# Altium footprint library CONN_HDR_2.54MM_ST_SMDE.PcbLib: 38 footprints (part 3 of 3)
Each footprint in its own frame and in the unit in brackets; x right, y up, seen from the top. Pads: shape width x height; smd on the part's side, far side on the other; paste and mask are expansions set on the pad; w line width, h text height; cw(c..) or ccw(c..) is an arc to the next point about the centre after c.
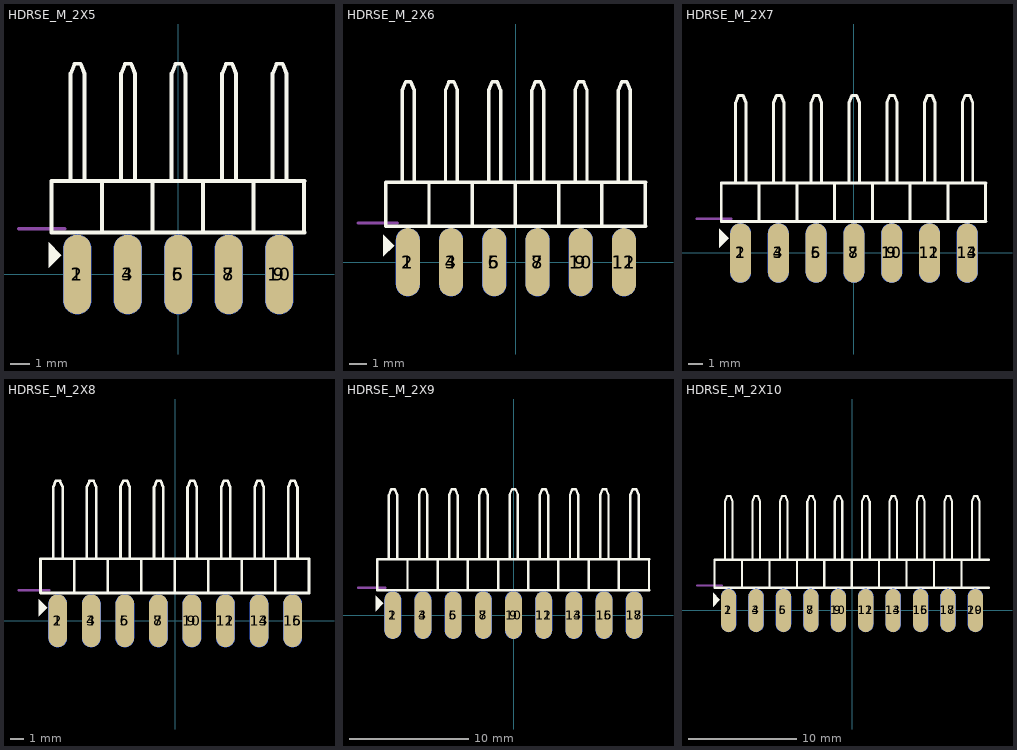
[diagram p2: the footprints below, top view; thin cyan lines are the x and y axes]

## HDRSE_M_2X5 [mm] "Male Header 2X05 with 2.54 mm Pitch"
pads (10):
  oval 1.4x4 smd: 1(-5.08,0) 3(-2.54,0) 5(0,0) 7(2.54,0) 9(5.08,0)
  oval 1.4x4 smd far side: 2(-5.08,0) 4(-2.54,0) 6(0,0) 8(2.54,0) 10(5.08,0)
TopOverlay:
  region: -6.523,0.342 -5.887,0.979 -6.523,1.615
  lines w0.2: -5.41,4.7 -5.41,10.1 -5.21,10.6 -4.91,10.6 -4.71,10.1 ; -4.71,4.7 -4.71,10.1 ; -3.81,2.1 -6.38,2.1 -6.38,4.7 -3.81,4.7 ; -2.87,4.7 -2.87,10.1 -2.67,10.6 -2.37,10.6 -2.17,10.1 ; -2.17,4.7 -2.17,10.1 ; -1.27,2.1 -3.84,2.1 -3.84,4.7 -1.27,4.7 ; -0.33,4.7 -0.33,10.1 -0.13,10.6 0.17,10.6 0.37,10.1 ; 0.37,4.7 0.37,10.1 ; 1.27,2.1 -1.3,2.1 -1.3,4.7 1.27,4.7 ; 2.21,4.7 2.21,10.1 2.41,10.6 2.71,10.6 2.91,10.1 ; 2.91,4.7 2.91,10.1 ; 3.81,2.1 1.24,2.1 1.24,4.7 3.81,4.7 ; 4.75,4.7 4.75,10.1 4.95,10.6 5.25,10.6 5.45,10.1 ; 5.45,4.7 5.45,10.1 ; 6.32,2.1 6.32,4.7 ; 6.35,2.1 3.78,2.1 3.78,4.7 6.35,4.7 ; -4.71,10.1 -4.71,10.1 ; -2.17,10.1 -2.17,10.1 ; 0.37,10.1 0.37,10.1 ; 2.91,10.1 2.91,10.1 ; 5.45,10.1 5.45,10.1
Mechanical1:
  lines w0.2: -8.01,2.3 -5.71,2.3
  text "Edge of PCB" at -8.11,2.5 h0.4
3D body "header2x5.step": height 2.54, standoff -2.54, extent -6.35,-0.39 6.349,10.532

## HDRSE_M_2X6 [mm] "Male Header 2X06 with 2.54 mm Pitch"
pads (12):
  oval 1.4x4 smd: 1(-6.35,0) 3(-3.81,0) 5(-1.27,0) 7(1.27,0) 9(3.81,0) 11(6.35,0)
  oval 1.4x4 smd far side: 2(-6.35,0) 4(-3.81,0) 6(-1.27,0) 8(1.27,0) 10(3.81,0) 12(6.35,0)
TopOverlay:
  region: -7.793,0.342 -7.157,0.979 -7.793,1.615
  lines w0.2: -6.68,4.7 -6.68,10.1 -6.48,10.6 -6.18,10.6 -5.98,10.1 ; -5.98,4.7 -5.98,10.1 ; -5.08,2.1 -7.65,2.1 -7.65,4.7 -5.08,4.7 ; -4.14,4.7 -4.14,10.1 -3.94,10.6 -3.64,10.6 -3.44,10.1 ; -3.44,4.7 -3.44,10.1 ; -2.54,2.1 -5.11,2.1 -5.11,4.7 -2.54,4.7 ; -1.6,4.7 -1.6,10.1 -1.4,10.6 -1.1,10.6 -0.9,10.1 ; -0.9,4.7 -0.9,10.1 ; 0,2.1 -2.57,2.1 -2.57,4.7 0,4.7 ; 0.94,4.7 0.94,10.1 1.14,10.6 1.44,10.6 1.64,10.1 ; 1.64,4.7 1.64,10.1 ; 2.54,2.1 -0.03,2.1 -0.03,4.7 2.54,4.7 ; 3.48,4.7 3.48,10.1 3.68,10.6 3.98,10.6 4.18,10.1 ; 4.18,4.7 4.18,10.1 ; 5.08,2.1 2.51,2.1 2.51,4.7 5.08,4.7 ; 6.02,4.7 6.02,10.1 6.22,10.6 6.52,10.6 6.72,10.1 ; 6.72,4.7 6.72,10.1 ; 7.59,2.1 7.59,4.7 ; 7.62,2.1 5.05,2.1 5.05,4.7 7.62,4.7 ; -5.98,10.1 -5.98,10.1 ; -3.44,10.1 -3.44,10.1 ; -0.9,10.1 -0.9,10.1 ; 1.64,10.1 1.64,10.1 ; 4.18,10.1 4.18,10.1 ; 6.72,10.1 6.72,10.1
Mechanical1:
  lines w0.2: -9.28,2.3 -6.98,2.3
  text "Edge of PCB" at -9.38,2.5 h0.4
3D body "header2x6.step": height 2.54, standoff -2.54, extent -7.62,-0.39 7.619,10.532

## HDRSE_M_2X7 [mm] "Male Header 2X07 with 2.54 mm Pitch"
pads (14):
  oval 1.4x4 smd mask+0.1: 1(-7.62,0) 3(-5.08,0) 5(-2.54,0) 7(0,0) 9(2.54,0) 11(5.08,0) 13(7.62,0)
  oval 1.4x4 smd far side mask+0.1: 2(-7.62,0) 4(-5.08,0) 6(-2.54,0) 8(0,0) 10(2.54,0) 12(5.08,0) 14(7.62,0)
TopOverlay:
  region: -9.063,0.342 -8.427,0.979 -9.063,1.615
  lines w0.2: -7.95,4.7 -7.95,10.1 -7.75,10.6 -7.45,10.6 -7.25,10.1 ; -7.25,4.7 -7.25,10.1 ; -6.35,2.1 -8.92,2.1 -8.92,4.7 -6.35,4.7 ; -5.41,4.7 -5.41,10.1 -5.21,10.6 -4.91,10.6 -4.71,10.1 ; -4.71,4.7 -4.71,10.1 ; -3.81,2.1 -6.38,2.1 -6.38,4.7 -3.81,4.7 ; -2.87,4.7 -2.87,10.1 -2.67,10.6 -2.37,10.6 -2.17,10.1 ; -2.17,4.7 -2.17,10.1 ; -1.27,2.1 -3.84,2.1 -3.84,4.7 -1.27,4.7 ; -0.33,4.7 -0.33,10.1 -0.13,10.6 0.17,10.6 0.37,10.1 ; 0.37,4.7 0.37,10.1 ; 1.27,2.1 -1.3,2.1 -1.3,4.7 1.27,4.7 ; 2.21,4.7 2.21,10.1 2.41,10.6 2.71,10.6 2.91,10.1 ; 2.91,4.7 2.91,10.1 ; 3.81,2.1 1.24,2.1 1.24,4.7 3.81,4.7 ; 4.75,4.7 4.75,10.1 4.95,10.6 5.25,10.6 5.45,10.1 ; 5.45,4.7 5.45,10.1 ; 6.35,2.1 3.78,2.1 3.78,4.7 6.35,4.7 ; 7.29,4.7 7.29,10.1 7.49,10.6 7.79,10.6 7.99,10.1 ; 7.99,4.7 7.99,10.1 ; 8.86,2.1 8.86,4.7 ; 8.89,2.1 6.32,2.1 6.32,4.7 8.89,4.7 ; -7.25,10.1 -7.25,10.1 ; -4.71,10.1 -4.71,10.1 ; -2.17,10.1 -2.17,10.1 ; 0.37,10.1 0.37,10.1 ; 2.91,10.1 2.91,10.1 ; 5.45,10.1 5.45,10.1 ; 7.99,10.1 7.99,10.1
Mechanical1:
  lines w0.2: -10.55,2.3 -8.25,2.3
  text "Edge of PCB" at -10.65,2.5 h0.4
3D body "header2x7.step": height 2.46, standoff -2.57, extent -8.89,-1 8.89,10.54

## HDRSE_M_2X8 [mm] "Male Header 2X08 with 2.54 mm Pitch"
pads (16):
  oval 1.4x4 smd: 1(-8.89,0) 3(-6.35,0) 5(-3.81,0) 7(-1.27,0) 9(1.27,0) 11(3.81,0) 13(6.35,0) 15(8.89,0)
  oval 1.4x4 smd far side: 2(-8.89,0) 4(-6.35,0) 6(-3.81,0) 8(-1.27,0) 10(1.27,0) 12(3.81,0) 14(6.35,0) 16(8.89,0)
TopOverlay:
  region: -10.333,0.342 -9.697,0.979 -10.333,1.615
  lines w0.2: -9.22,4.7 -9.22,10.1 -9.02,10.6 -8.72,10.6 -8.52,10.1 ; -8.52,4.7 -8.52,10.1 ; -7.62,2.1 -10.19,2.1 -10.19,4.7 -7.62,4.7 ; -6.68,4.7 -6.68,10.1 -6.48,10.6 -6.18,10.6 -5.98,10.1 ; -5.98,4.7 -5.98,10.1 ; -5.08,2.1 -7.65,2.1 -7.65,4.7 -5.08,4.7 ; -4.14,4.7 -4.14,10.1 -3.94,10.6 -3.64,10.6 -3.44,10.1 ; -3.44,4.7 -3.44,10.1 ; -2.54,2.1 -5.11,2.1 -5.11,4.7 -2.54,4.7 ; -1.6,4.7 -1.6,10.1 -1.4,10.6 -1.1,10.6 -0.9,10.1 ; -0.9,4.7 -0.9,10.1 ; 0,2.1 -2.57,2.1 -2.57,4.7 0,4.7 ; 0.94,4.7 0.94,10.1 1.14,10.6 1.44,10.6 1.64,10.1 ; 1.64,4.7 1.64,10.1 ; 2.54,2.1 -0.03,2.1 -0.03,4.7 2.54,4.7 ; 3.48,4.7 3.48,10.1 3.68,10.6 3.98,10.6 4.18,10.1 ; 4.18,4.7 4.18,10.1 ; 5.08,2.1 2.51,2.1 2.51,4.7 5.08,4.7 ; 6.02,4.7 6.02,10.1 6.22,10.6 6.52,10.6 6.72,10.1 ; 6.72,4.7 6.72,10.1 ; 7.62,2.1 5.05,2.1 5.05,4.7 7.62,4.7 ; 8.56,4.7 8.56,10.1 8.76,10.6 9.06,10.6 9.26,10.1 ; 9.26,4.7 9.26,10.1 ; 10.13,2.1 10.13,4.7 ; 10.16,2.1 7.59,2.1 7.59,4.7 10.16,4.7 ; -8.52,10.1 -8.52,10.1 ; -5.98,10.1 -5.98,10.1 ; -3.44,10.1 -3.44,10.1 ; -0.9,10.1 -0.9,10.1 ; 1.64,10.1 1.64,10.1 ; 4.18,10.1 4.18,10.1 ; 6.72,10.1 6.72,10.1 ; 9.26,10.1 9.26,10.1
Mechanical1:
  lines w0.2: -11.82,2.3 -9.52,2.3
  text "Edge of PCB" at -11.92,2.5 h0.4
3D body "header2x8.step": height 2.54, standoff -2.54, extent -10.16,-0.39 10.159,10.532

## HDRSE_M_2X9 [mm] "Male Header 2X09 with 2.54 mm Pitch"
pads (18):
  oval 1.4x4 smd: 1(-10.16,0) 3(-7.62,0) 5(-5.08,0) 7(-2.54,0) 9(0,0) 11(2.54,0) 13(5.08,0) 15(7.62,0) 17(10.16,0)
  oval 1.4x4 smd far side: 2(-10.16,0) 4(-7.62,0) 6(-5.08,0) 8(-2.54,0) 10(0,0) 12(2.54,0) 14(5.08,0) 16(7.62,0) 18(10.16,0)
TopOverlay:
  region: -11.603,0.342 -10.967,0.979 -11.603,1.615
  lines w0.2: -10.49,4.7 -10.49,10.1 -10.29,10.6 -9.99,10.6 -9.79,10.1 ; -9.79,4.7 -9.79,10.1 ; -8.89,2.1 -11.46,2.1 -11.46,4.7 -8.89,4.7 ; -7.95,4.7 -7.95,10.1 -7.75,10.6 -7.45,10.6 -7.25,10.1 ; -7.25,4.7 -7.25,10.1 ; -6.35,2.1 -8.92,2.1 -8.92,4.7 -6.35,4.7 ; -5.41,4.7 -5.41,10.1 -5.21,10.6 -4.91,10.6 -4.71,10.1 ; -4.71,4.7 -4.71,10.1 ; -3.81,2.1 -6.38,2.1 -6.38,4.7 -3.81,4.7 ; -2.87,4.7 -2.87,10.1 -2.67,10.6 -2.37,10.6 -2.17,10.1 ; -2.17,4.7 -2.17,10.1 ; -1.27,2.1 -3.84,2.1 -3.84,4.7 -1.27,4.7 ; -0.33,4.7 -0.33,10.1 -0.13,10.6 0.17,10.6 0.37,10.1 ; 0.37,4.7 0.37,10.1 ; 1.27,2.1 -1.3,2.1 -1.3,4.7 1.27,4.7 ; 2.21,4.7 2.21,10.1 2.41,10.6 2.71,10.6 2.91,10.1 ; 2.91,4.7 2.91,10.1 ; 3.81,2.1 1.24,2.1 1.24,4.7 3.81,4.7 ; 4.75,4.7 4.75,10.1 4.95,10.6 5.25,10.6 5.45,10.1 ; 5.45,4.7 5.45,10.1 ; 6.35,2.1 3.78,2.1 3.78,4.7 6.35,4.7 ; 7.29,4.7 7.29,10.1 7.49,10.6 7.79,10.6 7.99,10.1 ; 7.99,4.7 7.99,10.1 ; 8.89,2.1 6.32,2.1 6.32,4.7 8.89,4.7 ; 9.83,4.7 9.83,10.1 10.03,10.6 10.33,10.6 10.53,10.1 ; 10.53,4.7 10.53,10.1 ; 11.4,2.1 11.4,4.7 ; 11.43,2.1 8.86,2.1 8.86,4.7 11.43,4.7 ; -9.79,10.1 -9.79,10.1 ; -7.25,10.1 -7.25,10.1 ; -4.71,10.1 -4.71,10.1 ; -2.17,10.1 -2.17,10.1 ; 0.37,10.1 0.37,10.1 ; 2.91,10.1 2.91,10.1 ; 5.45,10.1 5.45,10.1 ; 7.99,10.1 7.99,10.1 ; 10.53,10.1 10.53,10.1
Mechanical1:
  lines w0.2: -13.09,2.3 -10.79,2.3
  text "Edge of PCB" at -13.19,2.5 h0.4
3D body "header2x9.step": height 2.54, standoff -2.54, extent -11.43,-0.46 11.429,10.462

## HDRSE_M_2X10 [mm] "Male Header 2X10 with 2.54 mm Pitch"
pads (20):
  oval 1.4x4 smd: 1(-11.43,0) 3(-8.89,0) 5(-6.35,0) 7(-3.81,0) 9(-1.27,0) 11(1.27,0) 13(3.81,0) 15(6.35,0) 17(8.89,0) 19(11.43,0)
  oval 1.4x4 smd far side: 2(-11.43,0) 4(-8.89,0) 6(-6.35,0) 8(-3.81,0) 10(-1.27,0) 12(1.27,0) 14(3.81,0) 16(6.35,0) 18(8.89,0) 20(11.43,0)
TopOverlay:
  region: -12.873,0.342 -12.237,0.979 -12.873,1.615
  lines w0.2: -11.76,4.7 -11.76,10.1 -11.56,10.6 -11.26,10.6 -11.06,10.1 ; -11.06,4.7 -11.06,10.1 ; -10.16,2.1 -12.73,2.1 -12.73,4.7 -10.16,4.7 ; -9.22,4.7 -9.22,10.1 -9.02,10.6 -8.72,10.6 -8.52,10.1 ; -8.52,4.7 -8.52,10.1 ; -7.62,2.1 -10.19,2.1 -10.19,4.7 -7.62,4.7 ; -6.68,4.7 -6.68,10.1 -6.48,10.6 -6.18,10.6 -5.98,10.1 ; -5.98,4.7 -5.98,10.1 ; -5.08,2.1 -7.65,2.1 -7.65,4.7 -5.08,4.7 ; -4.14,4.7 -4.14,10.1 -3.94,10.6 -3.64,10.6 -3.44,10.1 ; -3.44,4.7 -3.44,10.1 ; -2.54,2.1 -5.11,2.1 -5.11,4.7 -2.54,4.7 ; -1.6,4.7 -1.6,10.1 -1.4,10.6 -1.1,10.6 -0.9,10.1 ; -0.9,4.7 -0.9,10.1 ; 0,2.1 -2.57,2.1 -2.57,4.7 0,4.7 ; 0.94,4.7 0.94,10.1 1.14,10.6 1.44,10.6 1.64,10.1 ; 1.64,4.7 1.64,10.1 ; 2.54,2.1 -0.03,2.1 -0.03,4.7 2.54,4.7 ; 3.48,4.7 3.48,10.1 3.68,10.6 3.98,10.6 4.18,10.1 ; 4.18,4.7 4.18,10.1 ; 5.08,2.1 2.51,2.1 2.51,4.7 5.08,4.7 ; 6.02,4.7 6.02,10.1 6.22,10.6 6.52,10.6 6.72,10.1 ; 6.72,4.7 6.72,10.1 ; 7.62,2.1 5.05,2.1 5.05,4.7 7.62,4.7 ; 8.56,4.7 8.56,10.1 8.76,10.6 9.06,10.6 9.26,10.1 ; 9.26,4.7 9.26,10.1 ; 10.16,2.1 7.59,2.1 7.59,4.7 10.16,4.7 ; 11.1,4.7 11.1,10.1 11.3,10.6 11.6,10.6 11.8,10.1 ; 11.8,4.7 11.8,10.1 ; 12.7,2.1 10.13,2.1 10.13,4.7 12.7,4.7 ; -11.06,10.1 -11.06,10.1 ; -8.52,10.1 -8.52,10.1 ; -5.98,10.1 -5.98,10.1 ; -3.44,10.1 -3.44,10.1 ; -0.9,10.1 -0.9,10.1 ; 1.64,10.1 1.64,10.1 ; 4.18,10.1 4.18,10.1 ; 6.72,10.1 6.72,10.1 ; 9.26,10.1 9.26,10.1 ; 11.8,10.1 11.8,10.1
Mechanical1:
  lines w0.2: -14.36,2.3 -12.06,2.3
  text "Edge of PCB" at -14.46,2.5 h0.4
3D body "header2x10.step": height 2.54, standoff -2.54, extent -12.7,-0.36 12.699,10.562